# EAGLE library part XC9572XL-TQ100 (library XC9500XLneu)
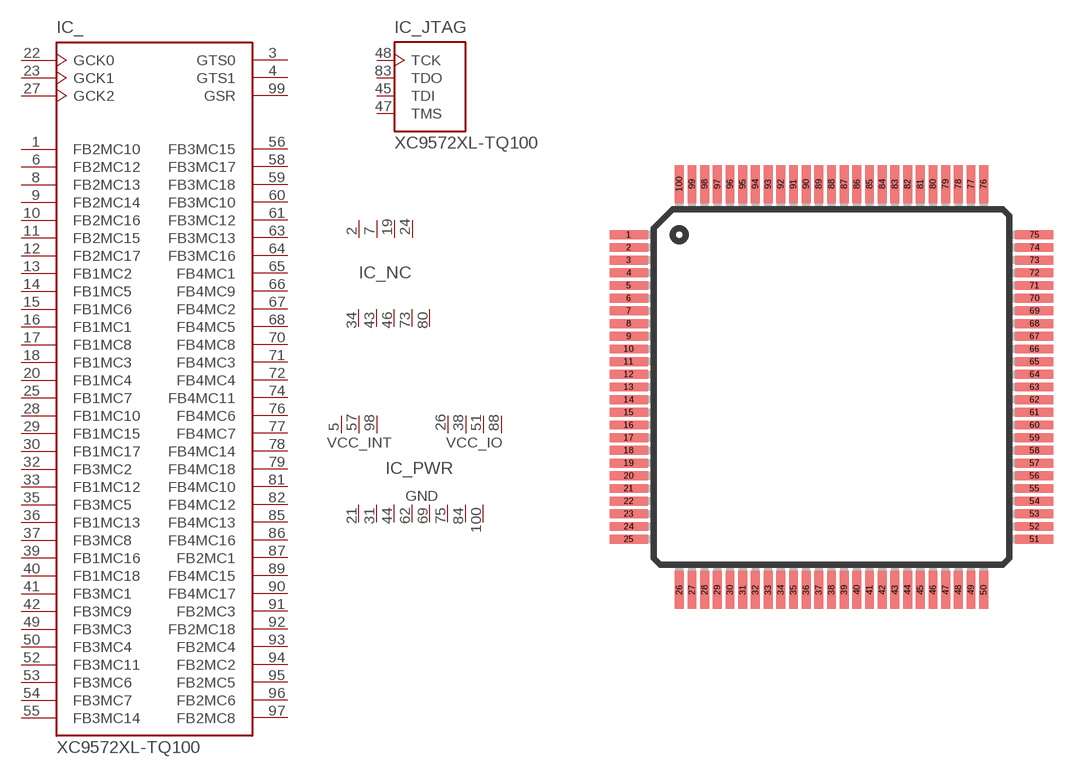
[diagram p8: symbol with the pads of TQ100; footprint TQ100]

Designator prefix IC; gates _=XC9572XL-TQ100 _PWR=XC9572XL-TQ100_PWR _NC=XC9572XL-TQ100_NC _JTAG=JTAG

## XC9572XL-TQ100  [TQ100]
1  _:FB2MC10
2  _NC:NC  pwr
3  _:GTS0  in
4  _:GTS1  in
5  _PWR:VCC_INT  pwr
6  _:FB2MC12
7  _NC:NC  pwr
8  _:FB2MC13
9  _:FB2MC14
10  _:FB2MC16
11  _:FB2MC15
12  _:FB2MC17
13  _:FB1MC2
14  _:FB1MC5
15  _:FB1MC6
16  _:FB1MC1
17  _:FB1MC8
18  _:FB1MC3
19  _NC:NC  pwr
20  _:FB1MC4
21  _PWR:GND  pwr
22  _:GCK0  in
23  _:GCK1  in
24  _NC:NC  pwr
25  _:FB1MC7
26  _PWR:VCC_IO  pwr
27  _:GCK2  in
28  _:FB1MC10
29  _:FB1MC15
30  _:FB1MC17
31  _PWR:GND  pwr
32  _:FB3MC2
33  _:FB1MC12
34  _NC:NC  pwr
35  _:FB3MC5
36  _:FB1MC13
37  _:FB3MC8
38  _PWR:VCC_IO  pwr
39  _:FB1MC16
40  _:FB1MC18
41  _:FB3MC1
42  _:FB3MC9
43  _NC:NC  pwr
44  _PWR:GND  pwr
45  _JTAG:TDI  in
46  _NC:NC  pwr
47  _JTAG:TMS  in
48  _JTAG:TCK  in
49  _:FB3MC3
50  _:FB3MC4
51  _PWR:VCC_IO  pwr
52  _:FB3MC11
53  _:FB3MC6
54  _:FB3MC7
55  _:FB3MC14
56  _:FB3MC15
57  _PWR:VCC_INT  pwr
58  _:FB3MC17
59  _:FB3MC18
60  _:FB3MC10
61  _:FB3MC12
62  _PWR:GND  pwr
63  _:FB3MC13
64  _:FB3MC16
65  _:FB4MC1
66  _:FB4MC9
67  _:FB4MC2
68  _:FB4MC5
69  _PWR:GND  pwr
70  _:FB4MC8
71  _:FB4MC3
72  _:FB4MC4
73  _NC:NC  pwr
74  _:FB4MC11
75  _PWR:GND  pwr
76  _:FB4MC6
77  _:FB4MC7
78  _:FB4MC14
79  _:FB4MC18
80  _NC:NC  pwr
81  _:FB4MC10
82  _:FB4MC12
83  _JTAG:TDO  out
84  _PWR:GND  pwr
85  _:FB4MC13
86  _:FB4MC16
87  _:FB2MC1
88  _PWR:VCC_IO  pwr
89  _:FB4MC15
90  _:FB4MC17
91  _:FB2MC3
92  _:FB2MC18
93  _:FB2MC4
94  _:FB2MC2
95  _:FB2MC5
96  _:FB2MC6
97  _:FB2MC8
98  _PWR:VCC_INT  pwr
99  _:GSR  in
100  _PWR:GND  pwr

## Footprint TQ100 (pad centres in mm)
smd 1.5 x 0.35: 1 -8,6; 2 -8,5.5; 3 -8,5; 4 -8,4.5; 5 -8,4; 6 -8,3.5; 7 -8,3; 8 -8,2.5; 9 -8,2; 10 -8,1.5; 11 -8,1; 12 -8,0.5; 13 -8,0; 14 -8,-0.5; 15 -8,-1; 16 -8,-1.5; 17 -8,-2; 18 -8,-2.5; 19 -8,-3; 20 -8,-3.5; 21 -8,-4; 22 -8,-4.5; 23 -8,-5; 24 -8,-5.5; 25 -8,-6; 51 8,-6; 52 8,-5.5; 53 8,-5; 54 8,-4.5; 55 8,-4; 56 8,-3.5; 57 8,-3; 58 8,-2.5; 59 8,-2; 60 8,-1.5; 61 8,-1; 62 8,-0.5; 63 8,0; 64 8,0.5; 65 8,1; 66 8,1.5; 67 8,2; 68 8,2.5; 69 8,3; 70 8,3.5; 71 8,4; 72 8,4.5; 73 8,5; 74 8,5.5; 75 8,6
smd 0.35 x 1.5: 26 -6,-8; 27 -5.5,-8; 28 -5,-8; 29 -4.5,-8; 30 -4,-8; 31 -3.5,-8; 32 -3,-8; 33 -2.5,-8; 34 -2,-8; 35 -1.5,-8; 36 -1,-8; 37 -0.5,-8; 38 0,-8; 39 0.5,-8; 40 1,-8; 41 1.5,-8; 42 2,-8; 43 2.5,-8; 44 3,-8; 45 3.5,-8; 46 4,-8; 47 4.5,-8; 48 5,-8; 49 5.5,-8; 50 6,-8; 76 6,8; 77 5.5,8; 78 5,8; 79 4.5,8; 80 4,8; 81 3.5,8; 82 3,8; 83 2.5,8; 84 2,8; 85 1.5,8; 86 1,8; 87 0.5,8; 88 0,8; 89 -0.5,8; 90 -1,8; 91 -1.5,8; 92 -2,8; 93 -2.5,8; 94 -3,8; 95 -3.5,8; 96 -4,8; 97 -4.5,8; 98 -5,8; 99 -5.5,8; 100 -6,8